# EAGLE library part 620107131822 (library Wurth_Elektronik_Electromechanic_Wire_to_Board_Connectors_rev16a)
WR-WTB 2.00mm SMT Male Horizontal Shrouded Header, 7 Pins=>Code : Con_WTB_2.00_PCB_SMT_620107131822 <http://katalog.we-online.de/media/thumbs2/eican/thb_Con_WTB_2.00_PCB_SMT_6201xx131822_pf2.jpg> Details see: http://katalog.we-online.de/en/em/620_1xx_131_822 Created 2014-06-05, Karrer Zheng 2014 (C) Würth Elektronik
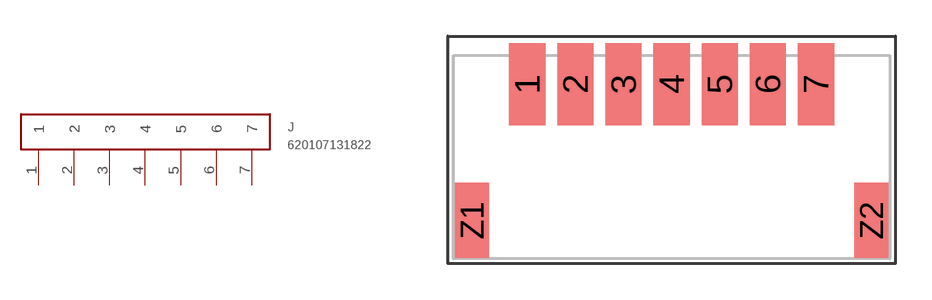
[diagram p41: symbol with the pads of 620107131822; footprint 620107131822]

Designator prefix J

## 620107131822  [620107131822]
1  1  pas
2  2  pas
3  3  pas
4  4  pas
5  5  pas
6  6  pas
7  7  pas

## Footprint 620107131822 (pad centres in mm)
WR-WTB 2.00mm SMT Male Horizontal Shrouded Header, 7 Pins
smd 1.5 x 3.4: 1 -1,0; 2 1,0; 3 3,0; 4 5,0; 5 7,0; 6 9,0; 7 11,0
smd 1.4 x 3.1: Z1 -3.3,-5.65; Z2 13.3,-5.65